# EAGLE library part USBLC6-2SC6 (library USBLC6-2SC6)
17V Clamp 5A (8/20µs) Ipp Tvs Diode Surface Mount SOT-23-6
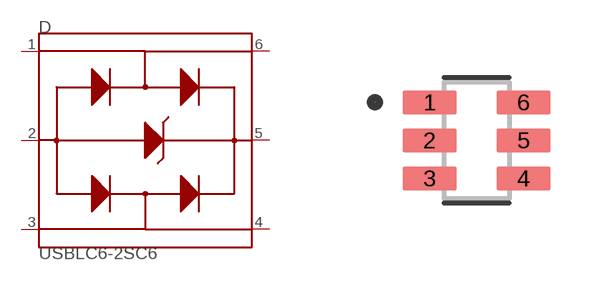
[diagram p0: symbol with the pads of SOT95P280X145-6N; footprint SOT95P280X145-6N]

Designator prefix D

## USBLC6-2SC6 (AVAILABILITY: Unavailable; DESCRIPTION: 17V Clamp 5A (8/20µs) Ipp Tvs Diode Surface Mount SOT-23-6; MF: STMicroelectronics; MP: USBLC6-2SC6; PACKAGE: SOT-23-6 STMicroelectronics; PRICE: None)  [SOT95P280X145-6N]
1  INPUT1
2  GND  pwr
3  INPUT2
4  OUTPUT2
5  VBUS  pwr
6  OUTPUT1

## Footprint SOT95P280X145-6N (pad centres in mm)
smd 1.36 x 0.6: 1 -1.175,0.95; 2 -1.175,0; 3 -1.175,-0.95; 4 1.175,-0.95; 5 1.175,0; 6 1.175,0.95